# Altium schematic symbol library Resistors.SCHLIB: 99 symbols (part 1 of 2)
Pins are listed as number, name and electrical type; pins without a type are passive.

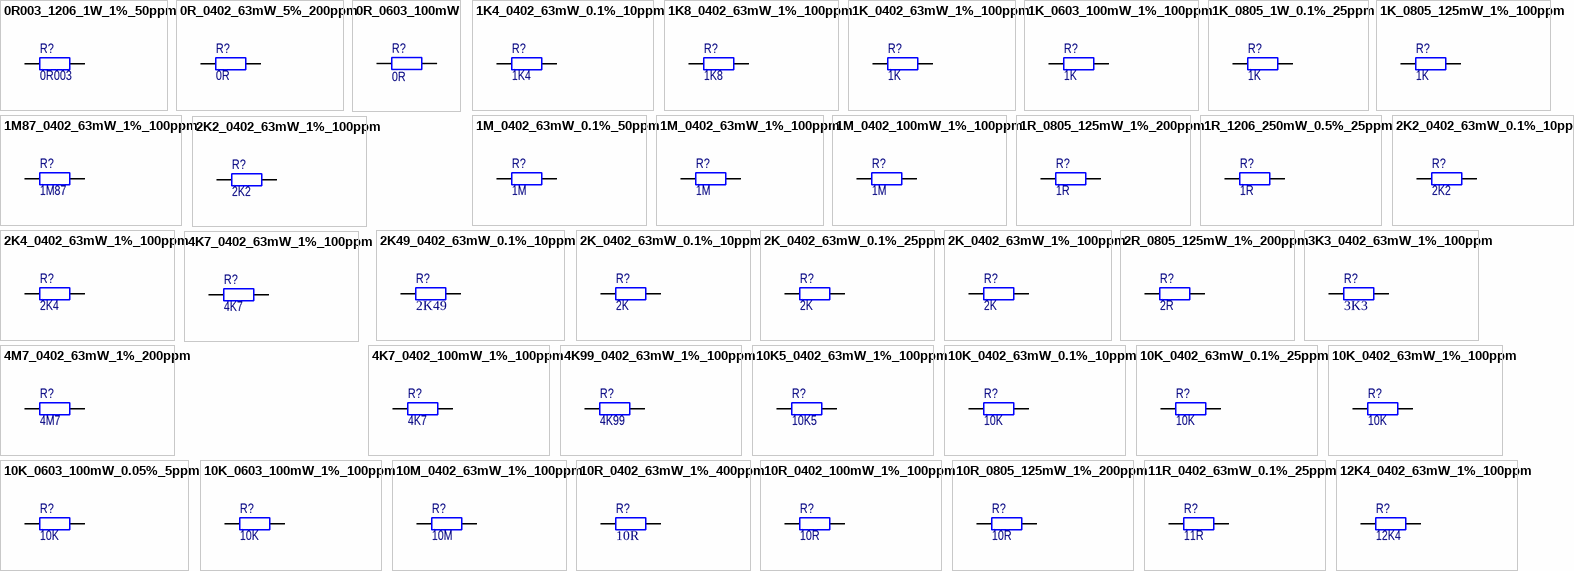
[diagram p0: symbols 0R003_1206_1W_1%_50ppm to 12K4_0402_63mW_1%_100ppm]

## 0R003_1206_1W_1%_50ppm
designator R?, comment value 0R003  (hidden comment: CSNL1206FT3L00)
Resistor; Chip; 0.003R; 1206; 200V; 1%; 50ppm; 1W; -55°C ~ 170°C; Manufacturer: Stackpole Electronics Inc; Manufacturer Part Number: CSNL1206FT3L00; Supplier 1: DigiKey; Supplier Part Number 1: CSNL1206FT3L00DKR-ND; ComponentLink1Description: Datasheet; ComponentLink1URL: https://www.seielect.com/catalog/sei-csnl.pdf; ComponentLink2Description: Supplier Info; ComponentLink2URL: https://www.digikey.com/en/products/detail/stackpole-electronics-inc/CSNL1206FT3L00/1788092?s=N4IgTCBcDaIMIGUByAZAjGADANgGIBUBmFTTAEQGkAlAWiTJAF0BfIA
simulation model RESISTOR (Resistor)
signal-integrity model Res
footprint RESC1206 (Chip Resistor, Body 3.2x1.6mm (LxW typ) [1206], IPC High Density)
pins: 1, 2

## 0R_0402_63mW_5%_200ppm
designator R?, comment value 0R  (hidden comment: RC0402JR-070RL)
Resistor; Chip; 0R; 0402; 50V; 5%; 200ppm; 63mW; -55°C ~ 155°C; Manufacturer: Yageo; Manufacturer Part Number: RC0402JR-070RL; Supplier 1: DigiKey; Supplier Part Number 1: 311-0.0JRDKR-ND; ComponentLink1Description: Datasheet; ComponentLink1URL: https://www.yageo.com/upload/media/product/productsearch/datasheet/rchip/PYu-RC_Group_51_RoHS_L_11.pdf; ComponentLink2Description: Supplier Info; ComponentLink2URL: https://www.digikey.com/en/products/detail/yageo/RC0402JR-070RL/726406?s=N4IgTCBcDaIMwEYEFoAMA6VApASgEQGkdkA5PEAXQF8g
simulation model RESISTOR (Resistor)
signal-integrity model Res
footprint RESC0402 (Chip Resistor, Body 1.1x0.5mm (LxW typ) [0402], IPC High Density)
pins: 1, 2

## 0R_0603_100mW
designator R?, comment value 0R  (hidden comment: RC0603JR-070RL)
Resistor; Chip; 0R; 0603; 100mW; Jumper; Manufacturer: Yageo; Manufacturer Part Number: RC0603JR-070RL; ComponentLink1Description: Datasheet; ComponentLink1URL: https://www.yageo.com/upload/media/product/productsearch/datasheet/rchip/PYu-RC_Group_51_RoHS_L_11.pdf; ComponentLink2Description: Supplier Info; ComponentLink2URL: https://www.digikey.de/product-detail/en/yageo/RC0603JR-070RL/311-0.0GRDKR-ND/732569; Supplier 1: Digi-Key; Supplier Part Number 1: 311-0.0GRCT-ND
simulation model RESISTOR (Resistor)
signal-integrity model Res
footprint JumperSMD_0603 (Chip Resistor, Body 1.6x0.8mm (LxW typ), IPC High Density)
pins: 1, 2

## 1K4_0402_63mW_0.1%_10ppm
designator R?, comment value 1K4  (hidden comment: ERA-2ARB1401X)
Resistor; Chip; 1.4k; 0402; 50V; 0.1%; 10ppm; 63mW; -55°C ~ 155°C; Manufacturer: Panasonic Electronic Components; Manufacturer Part Number: ERA-2ARB1401X; Supplier 1: DigiKey; Supplier Part Number 1: P17941DKR-ND; ComponentLink1Description: Datasheet; ComponentLink1URL: https://industrial.panasonic.com/cdbs/www-data/pdf/RDM0000/AOA0000C307.pdf; ComponentLink2Description: Supplier Info; ComponentLink2URL: https://www.digikey.com/en/products/detail/panasonic-electronic-components/ERA-2ARB1401X/5162180?s=N4IgTCBcDaIAoEYDsBOALAgIgaQEoFoA5TEAXQF8g
simulation model RESISTOR (Resistor)
signal-integrity model Res
footprint RESC0402 (Chip Resistor, Body 1.1x0.5mm (LxW typ) [0402], IPC High Density)
pins: 1, 2

## 1K8_0402_63mW_1%_100ppm
designator R?, comment value 1K8  (hidden comment: RC0402FR-071K8L)
Resistor; Chip; 1.8k; 0402; 50V; 1%; 100ppm; 63mW; -55°C ~ 155°C; Manufacturer: Yageo; Manufacturer Part Number: RC0402FR-071K8L; Supplier 1: DigiKey; Supplier Part Number 1: 311-1.80KLRDKR-ND; ComponentLink1Description: Datasheet; ComponentLink1URL: https://www.yageo.com/upload/media/product/productsearch/datasheet/rchip/PYu-RC_Group_51_RoHS_L_11.pdf; ComponentLink2Description: Supplier Info; ComponentLink2URL: https://www.digikey.com/en/products/detail/yageo/RC0402FR-071K8L/726520?s=N4IgTCBcDaIMwEYEFoEDoAcAGA0gGQCUARHA5AOSJAF0BfIA
simulation model RESISTOR (Resistor)
signal-integrity model Res
footprint RESC0402 (Chip Resistor, Body 1.1x0.5mm (LxW typ) [0402], IPC High Density)
pins: 1, 2

## 1K_0402_63mW_1%_100ppm
designator R?, comment value 1K  (hidden comment: RC0402FR-071KL)
Resistor; Chip; 1k; 0402; 50V; 1%; 100ppm; 63mW; -55°C ~ 155°C; Manufacturer: Yageo; Manufacturer Part Number: RC0402FR-071KL; Supplier 1: DigiKey; Supplier Part Number 1: 311-1.00KLRDKR-ND; ComponentLink1Description: Datasheet; ComponentLink1URL: https://www.yageo.com/upload/media/product/productsearch/datasheet/rchip/PYu-RC_Group_51_RoHS_L_11.pdf; ComponentLink2Description: Supplier Info; ComponentLink2URL: https://www.digikey.com/en/products/detail/yageo/RC0402FR-071KL/726513?s=N4IgTCBcDaIMwEYEFoEDoAMGDSAZASgCLb7IByhIAugL5A
simulation model RESISTOR (Resistor)
signal-integrity model Res
footprint RESC0402 (Chip Resistor, Body 1.1x0.5mm (LxW typ) [0402], IPC High Density)
pins: 1, 2

## 1K_0603_100mW_1%_100ppm
designator R?, comment value 1K  (hidden comment: ERJ-3EKF1001V)
Resistor; Chip; 1k; 0603; 75V; 1%; 100ppm; 100mW; -55°C ~ 155°C; Manufacturer: Panasonic Electronic Components; Manufacturer Part Number: ERJ-3EKF1001V; Supplier 1: DigiKey; Supplier Part Number 1: P1.00KHCT-ND; ComponentLink1Description: Datasheet; ComponentLink1URL: https://industrial.panasonic.com/cdbs/www-data/pdf/RDA0000/AOA0000C304.pdf; ComponentLink2Description: Supplier Info; ComponentLink2URL: https://www.digikey.com/en/products/detail/panasonic-electronic-components/ERJ-3EKF1001V/196032?s=N4IgTCBcDaIAoEYB0AGFBpAEgYQCoFoA5AERAF0BfIA
simulation model RESISTOR (Resistor)
signal-integrity model Res
footprint RESC0603 (Chip Resistor, Body 1.6x0.8mm (LxW typ) [0603], IPC High Density)
pins: 1, 2

## 1K_0805_1W_0.1%_25ppm
designator R?, comment value 1K  (hidden comment: PCAN0805E1001BST5)
Resistor; Chip; 1k; 0805; 100V; 0.1%; 25ppm; 1W; -55°C ~ 155°C; Manufacturer: Vishay; Manufacturer Part Number: PCAN0805E1001BST5; Supplier 1: DigiKey; Supplier Part Number 1: 764-1240-6-ND; ComponentLink1Description: Datasheet; ComponentLink1URL: https://www.vishay.com/docs/60125/pcan.pdf; ComponentLink2Description: Supplier Info; ComponentLink2URL: https://www.digikey.com/en/products/detail/vishay-dale-thin-film/PCAN0805E1001BST5/6003287?s=N4IgTCBcDaIOwDYAsBaAjGJAGFCUDkAREAXQF8g
simulation model RESISTOR (Resistor)
signal-integrity model Res
footprint RESC0805 (Chip Resistor, Body 2.0x1.3mm (LxW typ) [0805], IPC High Density)
pins: 1, 2

## 1K_0805_125mW_1%_100ppm
designator R?, comment value 1K  (hidden comment: RMCF0805FT1K00)
Resistor; Chip; 1k; 0805; 150V; 1%; 100ppm; 125mW; -55°C ~ 155°C; Manufacturer: Stackpole Electronics Inc; Manufacturer Part Number: RMCF0805FT1K00; Supplier 1: DigiKey; Supplier Part Number 1: RMCF0805FT1K00DKR-ND; ComponentLink1Description: Datasheet; ComponentLink1URL: https://www.seielect.com/catalog/sei-packaging.pdf; ComponentLink2Description: Supplier Info; ComponentLink2URL: https://www.digikey.com/en/products/detail/stackpole-electronics-inc/RMCF0805FT1K00/1760090?s=N4IgTCBcDaIEoFkDCAxADADjQVhQFQEYBpNNAESLgFoA5MkAXQF8g
simulation model RESISTOR (Resistor)
signal-integrity model Res
footprint RESC0805 (Chip Resistor, Body 2.0x1.3mm (LxW typ) [0805], IPC High Density)
pins: 1, 2

## 1M87_0402_63mW_1%_100ppm
designator R?, comment value 1M87  (hidden comment: CRCW04021M87FKED)
Resistor; Chip; 1.87M; 0402; 50V; 1%; 100ppm; 63mW; -55°C ~ 155°C; Manufacturer: Vishay; Manufacturer Part Number: CRCW04021M87FKED; Supplier 1: DigiKey; Supplier Part Number 1: 541-1.87MLDKR-ND; ComponentLink1Description: Datasheet; ComponentLink1URL: https://www.vishay.com/docs/20035/dcrcwe3.pdf; ComponentLink2Description: Supplier Info; ComponentLink2URL: https://www.digikey.com/en/products/detail/vishay-dale/CRCW04021M87FKED/1178378?s=N4IgTCBcDaIKwBYCMBaJA6AHAdgLIBkARAaQCUUA5QkAXQF8g
simulation model RESISTOR (Resistor)
signal-integrity model Res
footprint RESC0402 (Chip Resistor, Body 1.1x0.5mm (LxW typ) [0402], IPC High Density)
pins: 1, 2

## 1M_0402_63mW_0.1%_50ppm
designator R?, comment value 1M  (hidden comment: RE0402BRE071ML)
Resistor; Chip; 1M; 0402; 50V; 0.1%; 50ppm; 63mW; -55°C ~ 155°C; Manufacturer: Yageo; Manufacturer Part Number: RE0402BRE071ML; Supplier 1: DigiKey; Supplier Part Number 1: RE0402BRE071ML-ND; ComponentLink1Description: Datasheet; ComponentLink1URL: https://www.yageo.com/upload/media/product/productsearch/datasheet/rchip/PYu-RE_105_RoHS_L_6.pdf; ComponentLink2Description: Supplier Info; ComponentLink2URL: https://www.digikey.com/en/products/detail/yageo/RE0402BRE071ML/5922716?s=N4IgTCBcDaIEoFEAMAWJYBCikHYCMAsgDIC0AcgCIgC6AvkA
simulation model RESISTOR (Resistor)
signal-integrity model Res
footprint RESC0402 (Chip Resistor, Body 1.1x0.5mm (LxW typ) [0402], IPC High Density)
pins: 1, 2

## 1M_0402_63mW_1%_100ppm
designator R?, comment value 1M  (hidden comment: RC0402FR-071ML)
Resistor; Chip; 1M; 0402; 50V; 1%; 100ppm; 63mW; -55°C ~ 155°C; Manufacturer: Yageo; Manufacturer Part Number: RC0402FR-071ML; Supplier 1: DigiKey; Supplier Part Number 1: 311-1.00MLRDKR-ND; ComponentLink1Description: Datasheet; ComponentLink1URL: https://www.yageo.com/upload/media/product/productsearch/datasheet/rchip/PYu-RC_Group_51_RoHS_L_11.pdf; ComponentLink2Description: Supplier Info; ComponentLink2URL: https://www.digikey.com/en/products/detail/yageo/RC0402FR-071ML/726515?s=N4IgTCBcDaIMwEYEFoEDoAMGCyAZASgCIDS%2ByAcoSALoC%2BQA
simulation model RESISTOR (Resistor)
signal-integrity model Res
footprint RESC0402 (Chip Resistor, Body 1.1x0.5mm (LxW typ) [0402], IPC High Density)
pins: 1, 2

## 1M_0402_100mW_1%_100ppm
designator R?, comment value 1M  (hidden comment: ERJ-2RKF1004X)
Resistor; Chip; 1M; 0402; 50V; 1%; 100ppm; 100mW; -55°C ~ 155°C; Manufacturer: Panasonic Electronic Components; Manufacturer Part Number: ERJ-2RKF1004X; Supplier 1: DigiKey; Supplier Part Number 1: P1.00MLDKR-ND; ComponentLink1Description: Datasheet; ComponentLink1URL: https://industrial.panasonic.com/cdbs/www-data/pdf/RDA0000/AOA0000C304.pdf; ComponentLink2Description: Supplier Info; ComponentLink2URL: https://www.digikey.com/en/products/detail/panasonic-electronic-components/ERJ-2RKF1004X/79728?s=N4IgTCBcDaIAoEYB0AGFBZAMgEQNICUBaAOWxAF0BfIA
simulation model RESISTOR (Resistor)
signal-integrity model Res
footprint RESC0402 (Chip Resistor, Body 1.1x0.5mm (LxW typ) [0402], IPC High Density)
pins: 1, 2

## 1R_0805_125mW_1%_200ppm
designator R?, comment value 1R  (hidden comment: RC0805FR-071RL)
Resistor; Chip; 1R; 0805; 150V; 1%; 200ppm; 125mW; -55°C ~ 155°C; Manufacturer: Yageo; Manufacturer Part Number: RC0805FR-071RL; Supplier 1: DigiKey; Supplier Part Number 1: 311-1.00CRCT-ND; ComponentLink1Description: Datasheet; ComponentLink1URL: https://www.yageo.com/upload/media/product/productsearch/datasheet/rchip/PYu-RC_Group_51_RoHS_L_11.pdf; ComponentLink2Description: Supplier Info; ComponentLink2URL: https://www.digikey.com/en/products/detail/yageo/RC0805FR-071RL/727443?s=N4IgTCBcDaIMwEYEFoEDoAMGDCAlbAKsgHIAiIAugL5A
simulation model RESISTOR (Resistor)
signal-integrity model Res
footprint RESC0805 (Chip Resistor, Body 2.0x1.3mm (LxW typ) [0805], IPC High Density)
pins: 1, 2

## 1R_1206_250mW_0.5%_25ppm
designator R?, comment value 1R  (hidden comment: RT1206DRD071RL)
Resistor; Chip; 1R; 1206; 200V; 0.5%; 25ppm; 250mW; -55°C ~ 155°C; Manufacturer: Yageo; Manufacturer Part Number: RT1206DRD071RL; Supplier 1: DigiKey; Supplier Part Number 1: 311-2927-6-ND; ComponentLink1Description: Datasheet; ComponentLink1URL: https://www.yageo.com/upload/media/product/productsearch/datasheet/rchip/PYu-RT_1-to-0.01_RoHS_L_12.pdf; ComponentLink2Description: Supplier Info; ComponentLink2URL: https://www.digikey.com/en/products/detail/yageo/RT1206DRD071RL/5938259?s=N4IgTCBcDaIMwEYEFowE4wHZkDZkDkAREAXQF8g
simulation model RESISTOR (Resistor)
signal-integrity model Res
footprint RESC1206 (Chip Resistor, Body 3.2x1.6mm (LxW typ) [1206], IPC High Density)
pins: 1, 2

## 2K2_0402_63mW_0.1%_10ppm
designator R?, comment value 2K2  (hidden comment: ERA-2ARB222X)
Resistor; Chip; 2.2k; 0402; 50V; 0.1%; 10ppm; 63mW; -55°C ~ 155°C; Manufacturer: Panasonic Electronic Components; Manufacturer Part Number: ERA-2ARB222X; Supplier 1: DigiKey; Supplier Part Number 1: P2.2KCPDKR-ND; ComponentLink1Description: Datasheet; ComponentLink1URL: https://industrial.panasonic.com/cdbs/www-data/pdf/RDM0000/AOA0000C307.pdf; ComponentLink2Description: Supplier Info; ComponentLink2URL: https://www.digikey.com/en/products/detail/panasonic-electronic-components/ERA-2ARB222X/5140914?s=N4IgTCBcDaIApgHRgNIGE4BEUCUC0AcpiALoC%2BQA
simulation model RESISTOR (Resistor)
signal-integrity model Res
footprint RESC0402 (Chip Resistor, Body 1.1x0.5mm (LxW typ) [0402], IPC High Density)
pins: 1, 2

## 2K2_0402_63mW_1%_100ppm
designator R?, comment value 2K2  (hidden comment: RC0402FR-072K2L)
Resistor; Chip; 2.2k; 0402; 50V; 1%; 100ppm; 63mW; -55°C ~ 155°C; Manufacturer: Yageo; Manufacturer Part Number: RC0402FR-072K2L; Supplier 1: DigiKey; Supplier Part Number 1: 311-2.20KLRDKR-ND; ComponentLink1Description: Datasheet; ComponentLink1URL: https://www.yageo.com/upload/media/product/productsearch/datasheet/rchip/PYu-RC_Group_51_RoHS_L_11.pdf; ComponentLink2Description: Supplier Info; ComponentLink2URL: https://www.digikey.com/en/products/detail/yageo/RC0402FR-072K2L/726553?s=N4IgTCBcDaIMwEYEFowDowAYDSAZASgCLb7IByhIAugL5A
simulation model RESISTOR (Resistor)
signal-integrity model Res
footprint RESC0402 (Chip Resistor, Body 1.1x0.5mm (LxW typ) [0402], IPC High Density)
pins: 1, 2

## 2K4_0402_63mW_1%_100ppm
designator R?, comment value 2K4  (hidden comment: RC0402FR-072K4L)
Resistor; Chip; 2.4k; 0402; 50V; 1%; 100ppm; 63mW; -55°C ~ 155°C; Manufacturer: Yageo; Manufacturer Part Number: RC0402FR-072K4L; Supplier 1: DigiKey; Supplier Part Number 1: 311-2.40KLRDKR-ND; ComponentLink1Description: Datasheet; ComponentLink1URL: https://www.yageo.com/upload/media/product/productsearch/datasheet/rchip/PYu-RC_Group_51_RoHS_L_11.pdf; ComponentLink2Description: Supplier Info; ComponentLink2URL: https://www.digikey.com/en/products/detail/yageo/RC0402FR-072K4L/726555?s=N4IgTCBcDaIMwEYEFowDoAsAGA0gGQCUARHA5AOSJAF0BfIA
simulation model RESISTOR (Resistor)
signal-integrity model Res
footprint RESC0402 (Chip Resistor, Body 1.1x0.5mm (LxW typ) [0402], IPC High Density)
pins: 1, 2

## 2K49_0402_63mW_0.1%_10ppm
designator R?, comment value 2K49  (hidden comment: RQ73C1E2K49BTD)
Resistor; Chip; 2.49k; 0402; 50V; 0.1%; 10ppm; 63mW; -55°C ~ 155°C; Manufacturer: TE Connectivity; Manufacturer Part Number: RQ73C1E2K49BTD; Supplier 1: DigiKey; Supplier Part Number 1: A140563DKR-ND; ComponentLink1Description: Datasheet; ComponentLink1URL: https://media.digikey.com/pdf/Data%20Sheets/Tyco%20Electronics%20P%20B%20PDFs/RQ73-0618%20v2.pdf; ComponentLink2Description: Supplier Info; ComponentLink2URL: https://www.digikey.com/en/products/detail/te-connectivity-passive-product/RQ73C1E2K49BTD/9480511?s=N4IgTCBcDaIIIEYAsAGArANgMwBEDSASgLQByOIAugL5A
simulation model RESISTOR (Resistor)
signal-integrity model Res
footprint RESC0402 (Chip Resistor, Body 1.1x0.5mm (LxW typ) [0402], IPC High Density)
pins: 1, 2

## 2K_0402_63mW_0.1%_10ppm
designator R?, comment value 2K  (hidden comment: RN73C1E2K0BTD)
Resistor; Chip; 2k; 0402; 50V; 0.1%; 10ppm; 63mW; -55°C ~ 155°C; Manufacturer: TE Connectivity; Manufacturer Part Number: RN73C1E2K0BTD; Supplier 1: DigiKey; Supplier Part Number 1: A121690DKR-ND; ComponentLink1Description: Datasheet; ComponentLink1URL: https://www.te.com/commerce/DocumentDelivery/DDEController?Action=srchrtrv&DocNm=1773270&DocType=DS&DocLang=English; ComponentLink2Description: Supplier Info; ComponentLink2URL: https://www.digikey.com/en/products/detail/te-connectivity-passive-product/RN73C1E2K0BTD/5247948?s=N4IgTCBcDaIIIEYwIGwE4AMARA0gJQFoA5LEAXQF8g
simulation model RESISTOR (Resistor)
signal-integrity model Res
footprint RESC0402 (Chip Resistor, Body 1.1x0.5mm (LxW typ) [0402], IPC High Density)
pins: 1, 2

## 2K_0402_63mW_0.1%_25ppm
designator R?, comment value 2K  (hidden comment: RT0402BRD072KL)
Resistor; Chip; 2k; 0402; 50V; 0.1%; 25ppm; 63mW; -55°C ~ 155°C; Manufacturer: Yageo; Manufacturer Part Number: RT0402BRD072KL; Supplier 1: DigiKey; Supplier Part Number 1: YAG2303DKR-ND; ComponentLink1Description: Datasheet; ComponentLink1URL: https://www.yageo.com/upload/media/product/productsearch/datasheet/rchip/PYu-RT_1-to-0.01_RoHS_L_12.pdf; ComponentLink2Description: Supplier Info; ComponentLink2URL: https://www.digikey.com/en/products/detail/yageo/RT0402BRD072KL/1069198?s=N4IgTCBcDaIJoEEDiYDMAGVARA0gJQFoA5LEAXQF8g
simulation model RESISTOR (Resistor)
signal-integrity model Res
footprint RESC0603 (Chip Resistor, Body 1.6x0.8mm (LxW typ) [0603], IPC High Density)
pins: 1, 2

## 2K_0402_63mW_1%_100ppm
designator R?, comment value 2K  (hidden comment: RC0402FR-072KL)
Resistor; Chip; 2k; 0402; 50V; 1%; 100ppm; 63mW; -55°C ~ 155°C; Manufacturer: Yageo; Manufacturer Part Number: RC0402FR-072KL; Supplier 1: DigiKey; Supplier Part Number 1: 311-2KLRDKR-ND; ComponentLink1Description: Datasheet; ComponentLink1URL: https://www.yageo.com/upload/media/product/productsearch/datasheet/rchip/PYu-RC_Group_51_RoHS_L_11.pdf; ComponentLink2Description: Supplier Info; ComponentLink2URL: https://www.digikey.com/en/products/detail/yageo/RC0402FR-072KL/2827565?s=N4IgTCBcDaIMwEYEFowGkAyAlAImryAcjiALoC%2BQA
simulation model RESISTOR (Resistor)
signal-integrity model Res
footprint RESC0402 (Chip Resistor, Body 1.1x0.5mm (LxW typ) [0402], IPC High Density)
pins: 1, 2

## 2R_0805_125mW_1%_200ppm
designator R?, comment value 2R  (hidden comment: RMCF0805FT2R00)
Resistor; Chip; 2R; 0805; 150V; 1%; 200ppm; 125mW; -55°C ~ 155°C; Manufacturer: Stackpole Electronics Inc; Manufacturer Part Number: RMCF0805FT2R00; Supplier 1: DigiKey; Supplier Part Number 1: RMCF0805FT2R00DKR-ND; ComponentLink1Description: Datasheet; ComponentLink1URL: https://www.seielect.com/catalog/sei-rmcf_rmcp.pdf; ComponentLink2Description: Supplier Info; ComponentLink2URL: https://www.digikey.com/en/products/detail/stackpole-electronics-inc/RMCF0805FT2R00/1712782?s=N4IgTCBcDaIEoFkDCAxADADjQVhQFTDjTQBEBpOAWgDkSQBdAXyA
simulation model RESISTOR (Resistor)
signal-integrity model Res
footprint RESC0805 (Chip Resistor, Body 2.0x1.3mm (LxW typ) [0805], IPC High Density)
pins: 1, 2

## 3K3_0402_63mW_1%_100ppm
designator R?, comment value 3K3  (hidden comment: RC0402FR-073K3L)
Resistor; Chip; 3.3k; 0402; 50V; 1%; 100ppm; 63mW; -55°C ~ 155°C; Manufacturer: Yageo; Manufacturer Part Number: RC0402FR-073K3L; Supplier 1: DigiKey; Supplier Part Number 1: 311-3.30KLRDKR-ND; ComponentLink1Description: Datasheet; ComponentLink1URL: https://www.yageo.com/upload/media/product/productsearch/datasheet/rchip/PYu-RC_Group_51_RoHS_L_11.pdf; ComponentLink2Description: Supplier Info; ComponentLink2URL: https://www.digikey.com/en/products/detail/yageo/RC0402FR-073K3L/726580?s=N4IgTCBcDaIMwEYEFo4Do4AYDSAZASgCLb7IByhIAugL5A
simulation model RESISTOR (Resistor)
signal-integrity model Res
footprint RESC0402 (Chip Resistor, Body 1.1x0.5mm (LxW typ) [0402], IPC High Density)
pins: 1, 2

## 4K7_0402_63mW_1%_100ppm
designator R?, comment value 4K7  (hidden comment: RC0402FR-074K7L)
Resistor; Chip; 4.7k; 0402; 50V; 1%; 100ppm; 63mW; -55°C ~ 155°C; Manufacturer: Yageo; Manufacturer Part Number: RC0402FR-074K7L; Supplier 1: DigiKey; Supplier Part Number 1: 311-4.7KLRDKR-ND; ComponentLink1Description: Datasheet; ComponentLink1URL: https://www.yageo.com/upload/media/product/productsearch/datasheet/rchip/PYu-RC_Group_51_RoHS_L_11.pdf; ComponentLink2Description: Supplier Info; ComponentLink2URL: https://www.digikey.com/en/products/detail/yageo/RC0402FR-074K7L/2827563?s=N4IgTCBcDaIMwEYEFoAsA6A7AaQDICUARbfZAOUJAF0BfIA
simulation model RESISTOR (Resistor)
signal-integrity model Res
footprint RESC0402 (Chip Resistor, Body 1.1x0.5mm (LxW typ) [0402], IPC High Density)
pins: 1, 2

## 4K7_0402_100mW_1%_100ppm
designator R?, comment value 4K7  (hidden comment: ERJ-2RKF4701X)
Resistor; Chip; 4.7k; 0402; 50V; 1%; 100ppm; 100mW; -55°C ~ 155°C; Manufacturer: Panasonic Electronic Components; Manufacturer Part Number: ERJ-2RKF4701X; Supplier 1: DigiKey; Supplier Part Number 1: P4.70KLDKR-ND; ComponentLink1Description: Datasheet; ComponentLink1URL: https://industrial.panasonic.com/cdbs/www-data/pdf/RDA0000/AOA0000C304.pdf; ComponentLink2Description: Supplier Info; ComponentLink2URL: https://www.digikey.com/en/products/detail/panasonic-electronic-components/ERJ-2RKF4701X/1746231?s=N4IgTCBcDaIAoBYB0B2ADAaQDIBEMCUBaAORxAF0BfIA
simulation model RESISTOR (Resistor)
signal-integrity model Res
footprint RESC0402 (Chip Resistor, Body 1.1x0.5mm (LxW typ) [0402], IPC High Density)
pins: 1, 2

## 4K99_0402_63mW_1%_100ppm
designator R?, comment value 4K99  (hidden comment: RC0402FR-074K99L)
Resistor; Chip; 4.99k; 0402; 50V; 1%; 100ppm; 63mW; -55°C ~ 155°C; Manufacturer: Yageo; Manufacturer Part Number: RC0402FR-074K99L; Supplier 1: DigiKey; Supplier Part Number 1: 311-4.99KLRDKR-ND; ComponentLink1Description: Datasheet; ComponentLink1URL: https://www.yageo.com/upload/media/product/productsearch/datasheet/rchip/PYu-RC_Group_51_RoHS_L_11.pdf; ComponentLink2Description: Supplier Info; ComponentLink2URL: https://www.digikey.com/en/products/detail/yageo/RC0402FR-074K99L/2827568?s=N4IgTCBcDaIMwEYEFoAsA6AnJg0gGQCUARHA5AOSJAF0BfIA
simulation model RESISTOR (Resistor)
signal-integrity model Res
footprint RESC0402 (Chip Resistor, Body 1.1x0.5mm (LxW typ) [0402], IPC High Density)
pins: 1, 2

## 4M7_0402_63mW_1%_200ppm
designator R?, comment value 4M7  (hidden comment: RMCF0402FT4M70)
Resistor; Chip; 4.7M; 0402; 50V; 1%; 200ppm; 63mW; -55°C ~ 155°C; Manufacturer: Stackpole Electronics Inc; Manufacturer Part Number: RMCF0402FT4M70; Supplier 1: DigiKey; Supplier Part Number 1: RMCF0402FT4M70DKR-ND; ComponentLink1Description: Datasheet; ComponentLink1URL: https://www.seielect.com/catalog/sei-rmcf_rmcp.pdf; ComponentLink2Description: Supplier Info; ComponentLink2URL: https://www.digikey.com/en/products/detail/stackpole-electronics-inc/RMCF0402FT4M70/1714710?s=N4IgTCBcDaIEoFkDCAxADAFjWFAVDCA7GgCIDScAtAHIkgC6AvkA
simulation model RESISTOR (Resistor)
signal-integrity model Res
footprint RESC0402 (Chip Resistor, Body 1.1x0.5mm (LxW typ) [0402], IPC High Density)
pins: 1, 2

## 10K5_0402_63mW_1%_100ppm
designator R?, comment value 10K5  (hidden comment: RC0402FR-0710K5L)
Resistor; Chip; 10.5k; 0402; 50V; 1%; 100ppm; 63mW; -55°C ~ 155°C; Manufacturer: Yageo; Manufacturer Part Number: RC0402FR-0710K5L; Supplier 1: DigiKey; Supplier Part Number 1: YAG2951DKR-ND; ComponentLink1Description: Datasheet; ComponentLink1URL: https://www.yageo.com/upload/media/product/productsearch/datasheet/rchip/PYu-RC_Group_51_RoHS_L_11.pdf; ComponentLink2Description: Supplier Info; ComponentLink2URL: https://www.digikey.com/en/products/detail/yageo/RC0402FR-0710K5L/5280811?s=N4IgTCBcDaIJoEEDiYCcBWAjAEQNICUBaAOWxAF0BfIA
simulation model RESISTOR (Resistor)
signal-integrity model Res
footprint RESC0402 (Chip Resistor, Body 1.1x0.5mm (LxW typ) [0402], IPC High Density)
pins: 1, 2

## 10K_0402_63mW_0.1%_10ppm
designator R?, comment value 10K  (hidden comment: RN73C1E10KBTD)
Resistor; Chip; 10k; 0402; 50V; 0.1%; 10ppm; 63mW; -55°C ~ 155°C; Manufacturer: TE Connectivity; Manufacturer Part Number: RN73C1E10KBTD; Supplier 1: DigiKey; Supplier Part Number 1: A121671DKR-ND; ComponentLink1Description: Datasheet; ComponentLink1URL: https://www.te.com/commerce/DocumentDelivery/DDEController?Action=srchrtrv&DocNm=1773270&DocType=DS&DocLang=English; ComponentLink2Description: Supplier Info; ComponentLink2URL: https://www.digikey.com/en/products/detail/te-connectivity-passive-product/RN73C1E10KBTD/5247931?s=N4IgTCBcDaIIIEYwIGwHYEBEDSAlAtAHKYgC6AvkA
simulation model RESISTOR (Resistor)
signal-integrity model Res
footprint RESC0402 (Chip Resistor, Body 1.1x0.5mm (LxW typ) [0402], IPC High Density)
pins: 1, 2

## 10K_0402_63mW_0.1%_25ppm
designator R?, comment value 10K  (hidden comment: RT0402BRD0710KL)
Resistor; Chip; 10k; 0402; 75V; 0.1%; 25ppm; 63mW; -55°C ~ 155°C; Manufacturer: Yageo; Manufacturer Part Number: RT0402BRD0710KL; Supplier 1: DigiKey; Supplier Part Number 1: YAG1346DKR-ND; ComponentLink1Description: Datasheet; ComponentLink1URL: https://www.yageo.com/upload/media/product/productsearch/datasheet/rchip/PYu-RT_1-to-0.01_RoHS_L_12.pdf; ComponentLink2Description: Supplier Info; ComponentLink2URL: https://www.digikey.com/en/products/detail/yageo/RT0402BRD0710KL/1068998?s=N4IgTCBcDaIJoEEDiBGAzAFgGwBEDSASgLQByOIAugL5A
simulation model RESISTOR (Resistor)
signal-integrity model Res
pins: 1, 2

## 10K_0402_63mW_1%_100ppm
designator R?, comment value 10K  (hidden comment: RC0402FR-0710KL)
Resistor; Chip; 10k; 0402; 50V; 1%; 100ppm; 63mW; -55°C ~ 155°C; Manufacturer: Yageo; Manufacturer Part Number: RC0402FR-0710KL; Supplier 1: DigiKey; Supplier Part Number 1: 311-10.0KLRDKR-ND; ComponentLink1Description: Datasheet; ComponentLink1URL: https://www.yageo.com/upload/media/product/productsearch/datasheet/rchip/PYu-RC_Group_51_RoHS_L_11.pdf; ComponentLink2Description: Supplier Info; ComponentLink2URL: https://www.digikey.com/en/products/detail/yageo/RC0402FR-0710KL/726523?s=N4IgTCBcDaIMwEYEFoEAYB0aDSAZASgCLb7IByhIAugL5A
simulation model RESISTOR (Resistor)
signal-integrity model Res
footprint RESC0402 (Chip Resistor, Body 1.1x0.5mm (LxW typ) [0402], IPC High Density)
pins: 1, 2

## 10K_0603_100mW_0.05%_5ppm
designator R?, comment value 10K  (hidden comment: TNPU060310K0AZEA00)
Resistor; Chip; 10k; 0603; 75V; 0.05%; 5ppm; 100mW; -55°C ~ 125°C; Manufacturer: Vishay; Manufacturer Part Number: TNPU060310K0AZEA00; Supplier 1: DigiKey; Supplier Part Number 1: 541-4643-6-ND; ComponentLink1Description: Datasheet; ComponentLink1URL: https://www.vishay.com/docs/28779/tnpue3.pdf; ComponentLink2Description: Supplier Info; ComponentLink2URL: https://www.digikey.com/en/products/detail/vishay-dale/TNPU060310K0AZEA00/9448836?s=N4IgTCBcDaIKwBYCMBaBA2BBmF6UDkAREAXQF8g
simulation model RESISTOR (Resistor)
signal-integrity model Res
footprint RESC0603 (Chip Resistor, Body 1.6x0.8mm (LxW typ) [0603], IPC High Density)
pins: 1, 2

## 10K_0603_100mW_1%_100ppm
designator R?, comment value 10K  (hidden comment: RC0603FR-0710KL)
Resistor; Chip; 10k; 0603; 75V; 1%; 100ppm; 100mW; -55°C ~ 155°C; Manufacturer: Yageo; Manufacturer Part Number: RC0603FR-0710KL; Supplier 1: DigiKey; Supplier Part Number 1: 311-10.0KHRDKR-ND; ComponentLink1Description: Datasheet; ComponentLink1URL: https://www.yageo.com/upload/media/product/productsearch/datasheet/rchip/PYu-RC_Group_51_RoHS_L_11.pdf; ComponentLink2Description: Supplier Info; ComponentLink2URL: https://www.digikey.com/en/products/detail/yageo/RC0603FR-0710KL/726880?s=N4IgTCBcDaIMwEYEFoEAYB0aDSAJASgCLb7IByhIAugL5A
simulation model RESISTOR (Resistor)
signal-integrity model Res
footprint RESC0603 (Chip Resistor, Body 1.6x0.8mm (LxW typ) [0603], IPC High Density)
pins: 1, 2

## 10M_0402_63mW_1%_100ppm
designator R?, comment value 10M  (hidden comment: RC0402FR-0710ML)
Resistor; Chip; 10M; 0402; 50V; 1%; 100ppm; 63mW; -55°C ~ 155°C; Manufacturer: Yageo; Manufacturer Part Number: RC0402FR-0710ML; Supplier 1: DigiKey; Supplier Part Number 1: 311-10.0MLRDKR-ND; ComponentLink1Description: Datasheet; ComponentLink1URL: https://www.yageo.com/upload/media/product/productsearch/datasheet/rchip/PYu-RC_Group_51_RoHS_L_11.pdf; ComponentLink2Description: Supplier Info; ComponentLink2URL: https://www.digikey.com/en/products/detail/yageo/RC0402FR-0710ML/2827572?s=N4IgTCBcDaIMwEYEFoEAYB0aCyAZASgCIDS%2ByAcoSALoC%2BQA
simulation model RESISTOR (Resistor)
signal-integrity model Res
footprint RESC0402 (Chip Resistor, Body 1.1x0.5mm (LxW typ) [0402], IPC High Density)
pins: 1, 2

## 10R_0402_63mW_1%_400ppm
designator R?, comment value 10R  (hidden comment: CRGCQ0402F10R)
Resistor; Chip; 10R; 0402; 50V; 1%; 400ppm; 63mW; -55°C ~ 155°C; Manufacturer: TE Connectivity; Manufacturer Part Number: CRGCQ0402F10R; Supplier 1: DigiKey; Supplier Part Number 1: A129603DKR-ND; ComponentLink1Description: Datasheet; ComponentLink1URL: https://www.te.com/commerce/DocumentDelivery/DDEController?Action=srchrtrv&DocNm=1773204-3&DocType=DS&DocLang=English; ComponentLink2Description: Supplier Info; ComponentLink2URL: https://www.digikey.com/en/products/detail/te-connectivity-passive-product/CRGCQ0402F10R/8576205?s=N4IgTCBcDaIIIEYwE4BsAGAzAEQNICUBaAOWxAF0BfIA
simulation model RESISTOR (Resistor)
signal-integrity model Res
footprint RESC0402 (Chip Resistor, Body 1.1x0.5mm (LxW typ) [0402], IPC High Density)
pins: 1, 2

## 10R_0402_100mW_1%_100ppm
designator R?, comment value 10R  (hidden comment: ERJ-2RKF10R0X)
Resistor; Chip; 10R; 0402; 50V; 1%; 100ppm; 100mW; -55°C ~ 155°C; Manufacturer: Panasonic Electronic Components; Manufacturer Part Number: ERJ-2RKF10R0X; Supplier 1: DigiKey; Supplier Part Number 1: P10.0LDKR-ND; ComponentLink1Description: Datasheet; ComponentLink1URL: https://industrial.panasonic.com/cdbs/www-data/pdf/RDA0000/AOA0000C304.pdf; ComponentLink2Description: Supplier Info; ComponentLink2URL: https://www.digikey.com/en/products/detail/panasonic-electronic-components/ERJ-2RKF10R0X/192072?s=N4IgTCBcDaIAoEYAMA6JAZAIgaQEoFoA5TEAXQF8g
simulation model RESISTOR (Resistor)
signal-integrity model Res
footprint RESC0402 (Chip Resistor, Body 1.1x0.5mm (LxW typ) [0402], IPC High Density)
pins: 1, 2

## 10R_0805_125mW_1%_200ppm
designator R?, comment value 10R  (hidden comment: RC0805FR-0710RL)
Resistor; Chip; 10R; 0805; 150V; 1%; 200ppm; 125mW; -55°C ~ 155°C; Manufacturer: Yageo; Manufacturer Part Number: RC0805FR-0710RL; Supplier 1: DigiKey; Supplier Part Number 1: 311-10.0CRDKR-ND; ComponentLink1Description: Datasheet; ComponentLink1URL: https://www.yageo.com/upload/media/product/productsearch/datasheet/rchip/PYu-RC_Group_51_RoHS_L_11.pdf; ComponentLink2Description: Supplier Info; ComponentLink2URL: https://www.digikey.com/en/products/detail/yageo/RC0805FR-0710RL/727534?s=N4IgTCBcDaIMwEYEFoEAYB0aDCAlAIgNK7IBy%2BIAugL5A
simulation model RESISTOR (Resistor)
signal-integrity model Res
footprint RESC0805 (Chip Resistor, Body 2.0x1.3mm (LxW typ) [0805], IPC High Density)
pins: 1, 2

## 11R_0402_63mW_0.1%_25ppm
designator R?, comment value 11R  (hidden comment: CPF0402B11RE1)
Resistor; Chip; 11R; 0402; 50V; 0.1%; 25ppm; 63mW; -55°C ~ 155°C; Manufacturer: TE Connectivity; Manufacturer Part Number: CPF0402B11RE1; Supplier 1: DigiKey; Supplier Part Number 1: A102595DKR-ND; ComponentLink1Description: Datasheet; ComponentLink1URL: https://www.te.com/commerce/DocumentDelivery/DDEController?Action=srchrtrv&DocNm=1773200&DocType=DS&DocLang=English; ComponentLink2Description: Supplier Info; ComponentLink2URL: https://www.digikey.com/en/products/detail/te-connectivity-passive-product/CPF0402B11RE1/2381757?s=N4IgTCBcDaIIIEYAMYCsBOVARA0gJQFoA5LEAXQF8g
simulation model RESISTOR (Resistor)
signal-integrity model Res
footprint RESC0402 (Chip Resistor, Body 1.1x0.5mm (LxW typ) [0402], IPC High Density)
pins: 1, 2

## 12K4_0402_63mW_1%_100ppm
designator R?, comment value 12K4  (hidden comment: RC0402FR-0712K4L)
Resistor; Chip; 12.4k; 0402; 50V; 1%; 100ppm; 63mW; -55°C ~ 155°C; Manufacturer: Yageo; Manufacturer Part Number: RC0402FR-0712K4L; Supplier 1: DigiKey; Supplier Part Number 1: 311-12.4KLRDKR-ND; ComponentLink1Description: Datasheet; ComponentLink1URL: https://www.yageo.com/upload/media/product/productsearch/datasheet/rchip/PYu-RC_Group_51_RoHS_L_11.pdf; ComponentLink2Description: Supplier Info; ComponentLink2URL: https://www.digikey.com/en/products/detail/yageo/RC0402FR-0712K4L/2827623?s=N4IgTCBcDaIMwEYEFoFgHQBYDSAZASgCLb7IByhIAugL5A
simulation model RESISTOR (Resistor)
signal-integrity model Res
footprint RESC0402 (Chip Resistor, Body 1.1x0.5mm (LxW typ) [0402], IPC High Density)
pins: 1, 2

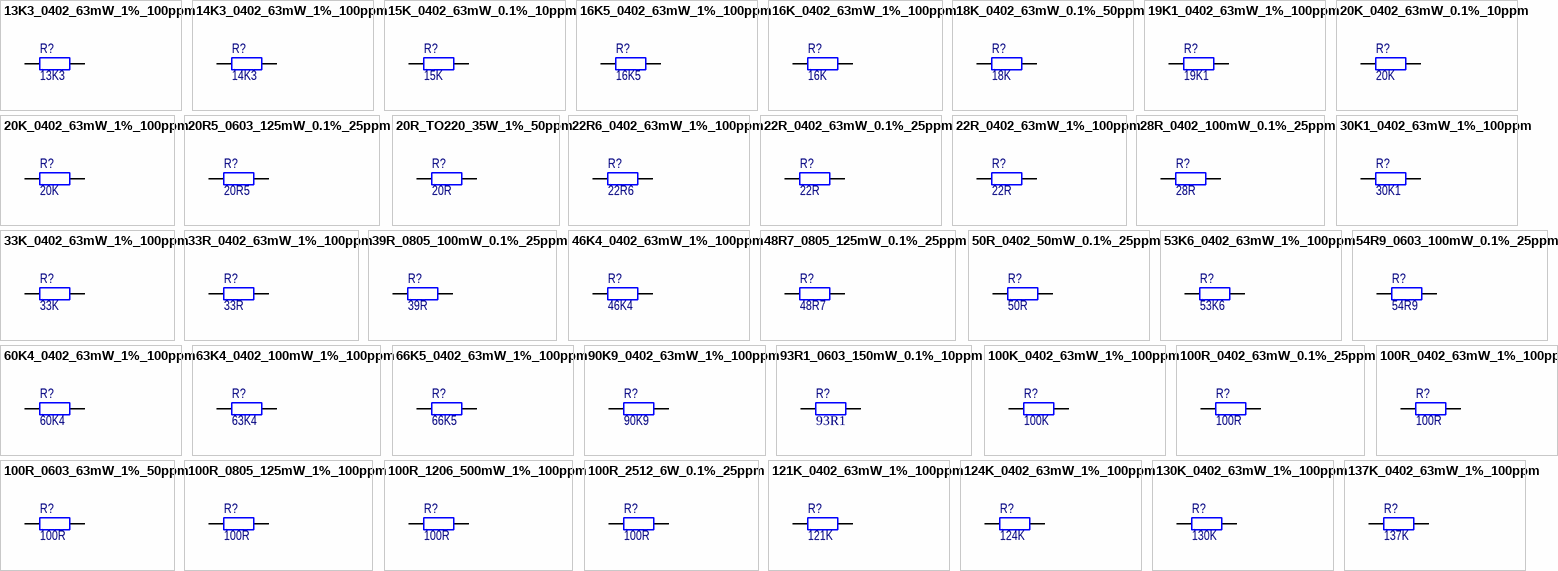
[diagram p1: symbols 13K3_0402_63mW_1%_100ppm to 137K_0402_63mW_1%_100ppm]

## 13K3_0402_63mW_1%_100ppm
designator R?, comment value 13K3  (hidden comment: RC0402FR-0713K3L)
Resistor; Chip; 13.3k; 0402; 50V; 1%; 100ppm; 63mW; -55°C ~ 155°C; Manufacturer: Yageo; Manufacturer Part Number: RC0402FR-0713K3L; Supplier 1: DigiKey; Supplier Part Number 1: YAG2974CT-ND; ComponentLink1Description: Datasheet; ComponentLink1URL: https://www.yageo.com/upload/media/product/productsearch/datasheet/rchip/PYu-RC_Group_51_RoHS_L_11.pdf; ComponentLink2Description: Supplier Info; ComponentLink2URL: https://www.digikey.com/en/products/detail/yageo/RC0402FR-0713K3L/5280834?s=N4IgTCBcDaIJoEEDiYCcB2ALAYQCoFoA5AERAF0BfIA
simulation model RESISTOR (Resistor)
signal-integrity model Res
footprint RESC0402 (Chip Resistor, Body 1.1x0.5mm (LxW typ) [0402], IPC High Density)
pins: 1, 2

## 14K3_0402_63mW_1%_100ppm
designator R?, comment value 14K3  (hidden comment: CRCW040214K3FKED)
Resistor; Chip; 14.3k; 0402; 50V; 1%; 100ppm; 63mW; -55°C ~ 155°C; Manufacturer: Vishay; Manufacturer Part Number: CRCW040214K3FKED; Supplier 1: DigiKey; Supplier Part Number 1: 541-14.3KLDKR-ND; ComponentLink1Description: Datasheet; ComponentLink1URL: https://www.vishay.com/docs/20035/dcrcwe3.pdf; ComponentLink2Description: Supplier Info; ComponentLink2URL: https://www.digikey.com/en/products/detail/vishay-dale/CRCW040214K3FKED/1178137
simulation model RESISTOR (Resistor)
signal-integrity model Res
footprint RESC0402 (Chip Resistor, Body 1.1x0.5mm (LxW typ) [0402], IPC High Density)
pins: 1, 2

## 15K_0402_63mW_0.1%_10ppm
designator R?, comment value 15K  (hidden comment: RQ73C1E15KBTD)
Resistor; Chip; 15k; 0402; 50V; 0.1%; 10ppm; 63mW; -55°C ~ 155°C; Manufacturer: TE Connectivity; Manufacturer Part Number: RQ73C1E15KBTD; Supplier 1: DigiKey; Supplier Part Number 1: A140269DKR-ND; ComponentLink1Description: Datasheet; ComponentLink1URL: https://media.digikey.com/pdf/Data%20Sheets/Tyco%20Electronics%20P%20B%20PDFs/RQ73-0618%20v2.pdf; ComponentLink2Description: Supplier Info; ComponentLink2URL: https://www.digikey.com/en/products/detail/te-connectivity-passive-product/RQ73C1E15KBTD/9480217?s=N4IgTCBcDaIIIEYAsAGMA2AnAEQNICUBaAOWxAF0BfIA
simulation model RESISTOR (Resistor)
signal-integrity model Res
footprint RESC0402 (Chip Resistor, Body 1.1x0.5mm (LxW typ) [0402], IPC High Density)
pins: 1, 2

## 16K5_0402_63mW_1%_100ppm
designator R?, comment value 16K5  (hidden comment: RC0402FR-0716K5L)
Resistor; Chip; 16.5k; 0402; 50V; 1%; 100ppm; 63mW; -55°C ~ 155°C; Manufacturer: Yageo; Manufacturer Part Number: RC0402FR-0716K5L; Supplier 1: DigiKey; Supplier Part Number 1: YAG3002DKR-ND; ComponentLink1Description: Datasheet; ComponentLink1URL: https://www.yageo.com/upload/media/product/productsearch/datasheet/rchip/PYu-RC_Group_51_RoHS_L_11.pdf; ComponentLink2Description: Supplier Info; ComponentLink2URL: https://www.digikey.com/en/products/detail/yageo/RC0402FR-0716K5L/5280862?s=N4IgTCBcDaIJoEEDiBmADGsARA0gJQFoA5LEAXQF8g
simulation model RESISTOR (Resistor)
signal-integrity model Res
footprint RESC0402 (Chip Resistor, Body 1.1x0.5mm (LxW typ) [0402], IPC High Density)
pins: 1, 2

## 16K_0402_63mW_1%_100ppm
designator R?, comment value 16K  (hidden comment: RC0402FR-0716KL)
Resistor; Chip; 16k; 0402; 50V; 1%; 100ppm; 63mW; -55°C ~ 155°C; Manufacturer: Yageo; Manufacturer Part Number: RC0402FR-0716KL; Supplier 1: DigiKey; Supplier Part Number 1: 311-16.0KLRDKR-ND; ComponentLink1Description: Datasheet; ComponentLink1URL: https://www.yageo.com/upload/media/product/productsearch/datasheet/rchip/PYu-RC_Group_51_RoHS_L_11.pdf; ComponentLink2Description: Supplier Info; ComponentLink2URL: https://www.digikey.com/en/products/detail/yageo/RC0402FR-0716KL/726544?s=N4IgTCBcDaIMwEYEFoEDYB0AGA0gGQCUARHA5AOSJAF0BfIA
simulation model RESISTOR (Resistor)
signal-integrity model Res
footprint RESC0402 (Chip Resistor, Body 1.1x0.5mm (LxW typ) [0402], IPC High Density)
pins: 1, 2

## 18K_0402_63mW_0.1%_50ppm
designator R?, comment value 18K  (hidden comment: RT0402BRE0718KL)
Resistor; Chip; 18k; 0402; 50V; 0.1%; 50ppm; 63mW; -55°C ~ 155°C; Manufacturer: Yageo; Manufacturer Part Number: RT0402BRE0718KL; Supplier 1: DigiKey; Supplier Part Number 1: YAG4345DKR-ND; ComponentLink1Description: Datasheet; ComponentLink1URL: https://www.yageo.com/upload/media/product/productsearch/datasheet/rchip/PYu-RT_1-to-0.01_RoHS_L_12.pdf; ComponentLink2Description: Supplier Info; ComponentLink2URL: https://www.digikey.com/en/products/detail/yageo/RT0402BRE0718KL/1069530?s=N4IgTCBcDaIJoEEDiAWAzCgrAEQNICUBaAOWxAF0BfIA
simulation model RESISTOR (Resistor)
signal-integrity model Res
footprint RESC0402 (Chip Resistor, Body 1.1x0.5mm (LxW typ) [0402], IPC High Density)
pins: 1, 2

## 19K1_0402_63mW_1%_100ppm
designator R?, comment value 19K1  (hidden comment: RC0402FR-0719K1L)
Resistor; Chip; 19.1k; 0402; 50V; 1%; 100ppm; 63mW; -55°C ~ 155°C; Manufacturer: Yageo; Manufacturer Part Number: RC0402FR-0719K1L; Supplier 1: DigiKey; Supplier Part Number 1: 311-19.1KLRCT-ND; ComponentLink1Description: Datasheet; ComponentLink1URL: https://www.yageo.com/upload/media/product/productsearch/datasheet/rchip/PYu-RC_Group_51_RoHS_L_11.pdf; ComponentLink2Description: Supplier Info; ComponentLink2URL: https://www.digikey.com/en/products/detail/yageo/RC0402FR-0719K1L/726552?s=N4IgTCBcDaIMwEYEFoEE4B0CDSAZASgMIAqyAcgCIgC6AvkA
simulation model RESISTOR (Resistor)
signal-integrity model Res
footprint RESC0402 (Chip Resistor, Body 1.1x0.5mm (LxW typ) [0402], IPC High Density)
pins: 1, 2

## 20K_0402_63mW_0.1%_10ppm
designator R?, comment value 20K  (hidden comment: RT0402BRB0720KL)
Resistor; Chip; 20k; 0402; 50V; 0.1%; 10ppm; 63mW; -55°C ~ 155°C; Manufacturer: Yageo; Manufacturer Part Number: RT0402BRB0720KL; Supplier 1: DigiKey; Supplier Part Number 1: 13-RT0402BRB0720KLDKR-ND; ComponentLink1Description: Datasheet; ComponentLink1URL: https://www.yageo.com/upload/media/product/productsearch/datasheet/rchip/PYu-RT_1-to-0.01_RoHS_L_12.pdf; ComponentLink2Description: Supplier Info; ComponentLink2URL: https://www.digikey.com/en/products/detail/yageo/RT0402BRB0720KL/5926000?s=N4IgTCBcDaIIwGYC0AlAKgBgCwbAIRTwwHYwMBpAGQBFyUkA5akAXQF8g
simulation model RESISTOR (Resistor)
signal-integrity model Res
footprint RESC0402 (Chip Resistor, Body 1.1x0.5mm (LxW typ) [0402], IPC High Density)
pins: 1, 2

## 20K_0402_63mW_1%_100ppm
designator R?, comment value 20K  (hidden comment: RC0402FR-0720KL)
Resistor; Chip; 20k; 0402; 50V; 1%; 100ppm; 63mW; -55°C ~ 155°C; Manufacturer: Yageo; Manufacturer Part Number: RC0402FR-0720KL; Supplier 1: DigiKey; Supplier Part Number 1: 311-20.0KLRDKR-ND; ComponentLink1Description: Datasheet; ComponentLink1URL: https://www.yageo.com/upload/media/product/productsearch/datasheet/rchip/PYu-RC_Group_51_RoHS_L_11.pdf; ComponentLink2Description: Supplier Info; ComponentLink2URL: https://www.digikey.com/en/products/detail/yageo/RC0402FR-0720KL/726557?s=N4IgTCBcDaIMwEYEFowAYB0aDSAZASgCLb7IByhIAugL5A
simulation model RESISTOR (Resistor)
signal-integrity model Res
footprint RESC0402 (Chip Resistor, Body 1.1x0.5mm (LxW typ) [0402], IPC High Density)
pins: 1, 2

## 20R5_0603_125mW_0.1%_25ppm
designator R?, comment value 20R5  (hidden comment: TNPW060320R5BEEA)
Resistor; Chip; 20.5R; 0603; 75V; 0.1%; 25ppm; 125mW; -55°C ~ 155°C; Manufacturer: Vishay; Manufacturer Part Number: TNPW060320R5BEEA; Supplier 1: DigiKey; Supplier Part Number 1: 541-4537-6-ND; ComponentLink1Description: Datasheet; ComponentLink1URL: https://www.vishay.com/docs/28758/tnpw_e3.pdf; ComponentLink2Description: Supplier Info; ComponentLink2URL: https://www.digikey.com/en/products/detail/vishay-dale/TNPW060320R5BEEA/1606572?s=N4IgTCBcDaIKwBYCMBaBcDMB2FA2FAcgCIgC6AvkA
simulation model RESISTOR (Resistor)
signal-integrity model Res
footprint RESC0603 (Chip Resistor, Body 1.6x0.8mm (LxW typ) [0603], IPC High Density)
pins: 1, 2

## 20R_TO220_35W_1%_50ppm
designator R?, comment value 20R  (hidden comment: PF2203-20RF1)
Resistor; Through Hole; 20R; TO220; ; 1%; 50ppm; 35W; -55°C ~ 155°C; Manufacturer: Riedon; Manufacturer Part Number: PF2203-20RF1; Supplier 1: DigiKey; Supplier Part Number 1: 696-1172-ND; ComponentLink1Description: Datasheet; ComponentLink1URL: https://riedon.com/media/pdf/PF2200.pdf; ComponentLink2Description: Supplier Info; ComponentLink2URL: https://www.digikey.com/en/products/detail/riedon/PF2203-20RF1/2447816?s=N4IgTCBcDaIGwE44FoCMqDsZkDkAiIAugL5A
simulation model RESISTOR (Resistor)
signal-integrity model Res
footprint TO-220-2-Standing
pins: 1, 2

## 22R6_0402_63mW_1%_100ppm
designator R?, comment value 22R6  (hidden comment: RC0402FR-0722R6L)
Resistor; Chip; 22.6R; 0402; 50V; 1%; 100ppm; 63mW; -55°C ~ 155°C; Manufacturer: Yageo; Manufacturer Part Number: RC0402FR-0722R6L; Supplier 1: DigiKey; Supplier Part Number 1: 311-22.6LRDKR-ND; ComponentLink1Description: Datasheet; ComponentLink1URL: https://www.yageo.com/upload/media/product/productsearch/datasheet/rchip/PYu-RC_Group_51_RoHS_L_11.pdf; ComponentLink2Description: Supplier Info; ComponentLink2URL: https://www.digikey.com/en/products/detail/yageo/RC0402FR-0722R6L/2827600?s=N4IgTCBcDaIMwEYEFoxgHQDYAyAlAIgNK7IBy%2BIAugL5A
simulation model RESISTOR (Resistor)
signal-integrity model Res
footprint RESC0402 (Chip Resistor, Body 1.1x0.5mm (LxW typ) [0402], IPC High Density)
pins: 1, 2

## 22R_0402_63mW_0.1%_25ppm
designator R?, comment value 22R  (hidden comment: CPF0402B22RE1)
Resistor; Chip; 22R; 0402; 50V; 0.1%; 25ppm; 63mW; -55°C ~ 155°C; Manufacturer: TE Connectivity; Manufacturer Part Number: CPF0402B22RE1; Supplier 1: DigiKey; Supplier Part Number 1: A102720DKR-ND; ComponentLink1Description: Datasheet; ComponentLink1URL: https://www.te.com/commerce/DocumentDelivery/DDEController?Action=srchrtrv&DocNm=1773200&DocType=DS&DocLang=English; ComponentLink2Description: Supplier Info; ComponentLink2URL: https://www.digikey.com/en/products/detail/te-connectivity-passive-product/CPF0402B22RE1/2381764?s=N4IgTCBcDaIIIEYAMYDsYkBEDSAlAtAHKYgC6AvkA
simulation model RESISTOR (Resistor)
signal-integrity model Res
footprint RESC0402 (Chip Resistor, Body 1.1x0.5mm (LxW typ) [0402], IPC High Density)
pins: 1, 2

## 22R_0402_63mW_1%_100ppm
designator R?, comment value 22R  (hidden comment: RC0402FR-0722RL)
Resistor; Chip; 22R; 0402; 50V; 1%; 100ppm; 63mW; -55°C ~ 155°C; Manufacturer: Yageo; Manufacturer Part Number: RC0402FR-0722RL; Supplier 1: DigiKey; Supplier Part Number 1: 311-22.0LRDKR-ND; ComponentLink1Description: Datasheet; ComponentLink1URL: https://www.yageo.com/upload/media/product/productsearch/datasheet/rchip/PYu-RC_Group_51_RoHS_L_11.pdf; ComponentLink2Description: Supplier Info; ComponentLink2URL: https://www.digikey.com/en/products/detail/yageo/RC0402FR-0722RL/726562?s=N4IgTCBcDaIMwEYEFoxgHQAYAyAlAIgNK7IBy%2BIAugL5A
simulation model RESISTOR (Resistor)
signal-integrity model Res
footprint RESC0402 (Chip Resistor, Body 1.1x0.5mm (LxW typ) [0402], IPC High Density)
pins: 1, 2

## 28R_0402_100mW_0.1%_25ppm
designator R?, comment value 28R  (hidden comment: RP73PF1E28RBTD)
Resistor; Chip; 28R; 0402; 50V; 0.1%; 25ppm; 100mW; -55°C ~ 155°C; Manufacturer: TE Connectivity; Manufacturer Part Number: RP73PF1E28RBTD; Supplier 1: DigiKey; Supplier Part Number 1: A127170DKR-ND; ComponentLink1Description: Datasheet; ComponentLink1URL: https://www.te.com/commerce/DocumentDelivery/DDEController?Action=srchrtrv&DocNm=1773272&DocType=DS&DocLang=English; ComponentLink2Description: Supplier Info; ComponentLink2URL: https://www.digikey.com/en/products/detail/te-connectivity-passive-product/RP73PF1E28RBTD/8260712?s=N4IgTCBcDaIIIEYwHYHIAwBEDSAlAtAHKYgC6AvkA
simulation model RESISTOR (Resistor)
signal-integrity model Res
footprint RESC0402 (Chip Resistor, Body 1.1x0.5mm (LxW typ) [0402], IPC High Density)
pins: 1, 2

## 30K1_0402_63mW_1%_100ppm
designator R?, comment value 30K1  (hidden comment: RC0402FR-0730K1L)
Resistor; Chip; 30.1k; 0402; 50V; 1%; 100ppm; 63mW; -55°C ~ 155°C; Manufacturer: Yageo; Manufacturer Part Number: RC0402FR-0730K1L; Supplier 1: DigiKey; Supplier Part Number 1: 311-30.1KLRCT-ND; ComponentLink1Description: Datasheet; ComponentLink1URL: https://www.yageo.com/upload/media/product/productsearch/datasheet/rchip/PYu-RC_Group_51_RoHS_L_11.pdf; ComponentLink2Description: Supplier Info; ComponentLink2URL: https://www.digikey.com/en/products/detail/yageo/RC0402FR-0730K1L/726587?s=N4IgTCBcDaIMwEYEFo4AYB0CDSAZASgMIAqyAcgCIgC6AvkA
simulation model RESISTOR (Resistor)
signal-integrity model Res
footprint RESC0402 (Chip Resistor, Body 1.1x0.5mm (LxW typ) [0402], IPC High Density)
pins: 1, 2

## 33K_0402_63mW_1%_100ppm
designator R?, comment value 33K  (hidden comment: RC0402FR-0733KL)
Resistor; Chip; 33k; 0402; 50V; 1%; 100ppm; 63mW; -55°C ~ 155°C; Manufacturer: Yageo; Manufacturer Part Number: RC0402FR-0733KL; Supplier 1: DigiKey; Supplier Part Number 1: 311-33.0KLRDKR-ND; ComponentLink1Description: Datasheet; ComponentLink1URL: https://www.yageo.com/upload/media/product/productsearch/datasheet/rchip/PYu-RC_Group_51_RoHS_L_11.pdf; ComponentLink2Description: Supplier Info; ComponentLink2URL: https://www.digikey.com/en/products/detail/yageo/RC0402FR-0733KL/726592?s=N4IgTCBcDaIMwEYEFo5wHQAYDSAZASgCLb7IByhIAugL5A
simulation model RESISTOR (Resistor)
signal-integrity model Res
footprint RESC0402 (Chip Resistor, Body 1.1x0.5mm (LxW typ) [0402], IPC High Density)
pins: 1, 2

## 33R_0402_63mW_1%_100ppm
designator R?, comment value 33R  (hidden comment: RC0402FR-0733RL)
Resistor; Chip; 33R; 0402; 50V; 1%; 100ppm; 63mW; -55°C ~ 155°C; Manufacturer: Yageo; Manufacturer Part Number: RC0402FR-0733RL; Supplier 1: DigiKey; Supplier Part Number 1: 311-33.0LRDKR-ND; ComponentLink1Description: Datasheet; ComponentLink1URL: https://www.yageo.com/upload/media/product/productsearch/datasheet/rchip/PYu-RC_Group_51_RoHS_L_11.pdf; ComponentLink2Description: Supplier Info; ComponentLink2URL: https://www.digikey.com/en/products/detail/yageo/RC0402FR-0733RL/726593?s=N4IgTCBcDaIMwEYEFo5wHQAYAyAlAIgNK7IBy%2BIAugL5A
simulation model RESISTOR (Resistor)
signal-integrity model Res
footprint RESC0402 (Chip Resistor, Body 1.1x0.5mm (LxW typ) [0402], IPC High Density)
pins: 1, 2

## 39R_0805_100mW_0.1%_25ppm
designator R?, comment value 39R  (hidden comment: CPF0805B39RE1)
Resistor; Chip; 39R; 0805; 150V; 0.1%; 25ppm; 100mW; -55°C ~ 155°C; Manufacturer: TE Connectivity; Manufacturer Part Number: CPF0805B39RE1; Supplier 1: DigiKey; Supplier Part Number 1: A103203DKR-ND; ComponentLink1Description: Datasheet; ComponentLink1URL: https://www.te.com/commerce/DocumentDelivery/DDEController?Action=srchrtrv&DocNm=1773200&DocType=DS&DocLang=English; ComponentLink2Description: Supplier Info; ComponentLink2URL: https://www.digikey.com/en/products/detail/te-connectivity-passive-product/CPF0805B39RE1/2381999?s=N4IgTCBcDaIIIEYAMBmMqAiBpASgWgDkMQBdAXyA
simulation model RESISTOR (Resistor)
signal-integrity model Res
footprint RESC0805 (Chip Resistor, Body 2.0x1.3mm (LxW typ) [0805], IPC High Density)
pins: 1, 2

## 46K4_0402_63mW_1%_100ppm
designator R?, comment value 46K4  (hidden comment: RMCF0402FT46K4)
Resistor; Chip; 46.4k; 0402; 50V; 1%; 100ppm; 63mW; -55°C ~ 155°C; Manufacturer: Stackpole Electronics Inc; Manufacturer Part Number: RMCF0402FT46K4; Supplier 1: DigiKey; Supplier Part Number 1: RMCF0402FT46K4DKR-ND; ComponentLink1Description: Datasheet; ComponentLink1URL: https://www.seielect.com/catalog/sei-rmcf_rmcp.pdf; ComponentLink2Description: Supplier Info; ComponentLink2URL: https://www.digikey.com/en/products/detail/stackpole-electronics-inc/RMCF0402FT46K4/1761445?s=N4IgTCBcDaIEoFkDCAxADAFjWFAVDAbANIYAiRcAtAHKkgC6AvkA
simulation model RESISTOR (Resistor)
signal-integrity model Res
footprint RESC0402 (Chip Resistor, Body 1.1x0.5mm (LxW typ) [0402], IPC High Density)
pins: 1, 2

## 48R7_0805_125mW_0.1%_25ppm
designator R?, comment value 48R7  (hidden comment: ERA-6AEB48R7V)
Resistor; Chip; 48.7R; 0805; 150V; 0.1%; 25ppm; 125mW; -55°C ~ 155°C; Manufacturer: Panasonic Electronic Components; Manufacturer Part Number: ERA-6AEB48R7V; Supplier 1: DigiKey; Supplier Part Number 1: P48.7DACT-ND; ComponentLink1Description: Datasheet; ComponentLink1URL: https://industrial.panasonic.com/cdbs/www-data/pdf/RDM0000/AOA0000C307.pdf; ComponentLink2Description: Supplier Info; ComponentLink2URL: https://www.digikey.com/en/products/detail/panasonic-electronic-components/ERA-6AEB48R7V/2025545?s=N4IgTCBcDaIAoBYAcA6A7AEQIIGEAqAtAHIYgC6AvkA
simulation model RESISTOR (Resistor)
signal-integrity model Res
footprint RESC0805 (Chip Resistor, Body 2.0x1.3mm (LxW typ) [0805], IPC High Density)
pins: 1, 2

## 50R_0402_50mW_0.1%_25ppm
designator R?, comment value 50R  (hidden comment: FC0402E50R0BST1)
Resistor; Chip; 50R; 0402; 50V; 0.1%; 25ppm; 50mW; -55°C ~ 155°C; Manufacturer: Vishay; Manufacturer Part Number: FC0402E50R0BST1; Supplier 1: DigiKey; Supplier Part Number 1: FC0402-50BWDKR-ND; ComponentLink1Description: Datasheet; ComponentLink1URL: https://www.vishay.com/docs/60093/fcseries.pdf; ComponentLink2Description: Supplier Info; ComponentLink2URL: https://www.digikey.com/en/products/detail/vishay-dale-thin-film/FC0402E50R0BST1/1769756?s=N4IgTCBcDaIGIGEAMAWJYC0BWJAhA6gCIDSAShgHKEgC6AvkA
simulation model RESISTOR (Resistor)
signal-integrity model Res
footprint RESC0402 (Chip Resistor, Body 1.1x0.5mm (LxW typ) [0402], IPC High Density)
pins: 1, 2